# EAGLE library part FE1.1S (library Deegou_IC)
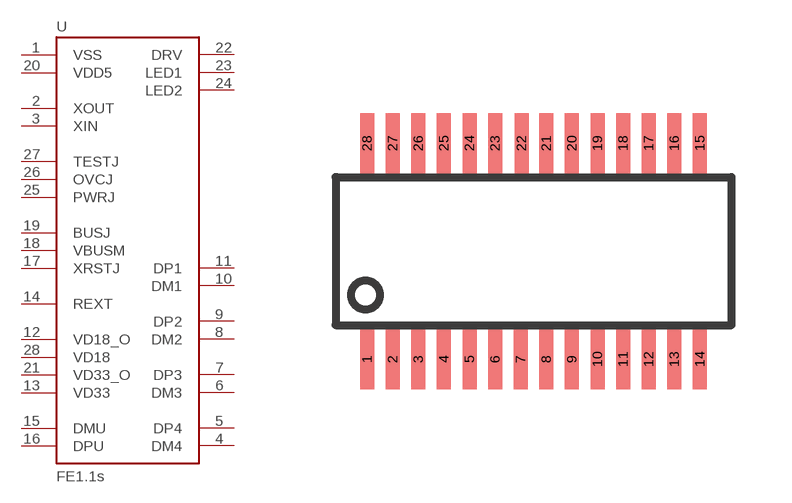
[diagram p85: symbol with the pads of FE1.1S_SSOP-28; footprint FE1.1S_SSOP-28]

Designator prefix U

## FE1.1S  [FE1.1S_SSOP-28]
1  VSS
2  XOUT
3  XIN
4  DM4
5  DP4
6  DM3
7  DP3
8  DM2
9  DP2
10  DM1
11  DP1
12  VD18_O
13  VD33
14  REXT
15  DMU
16  DPU
17  XRSTJ
18  VBUSM
19  BUSJ
20  VDD5
21  VD33_O
22  DRV
23  LED1
24  LED2
25  PWRJ
26  OVCJ
27  TESTJ
28  VD18

## Footprint FE1.1S_SSOP-28 (pad centres in mm)
smd 0.35 x 1.5: 1 -4.16,-2.7; 2 -3.52,-2.7; 3 -2.88,-2.7; 4 -2.24,-2.7; 5 -1.6,-2.7; 6 -0.96,-2.7; 7 -0.32,-2.7; 8 0.32,-2.7; 9 0.96,-2.7; 10 1.6,-2.7; 11 2.24,-2.7; 12 2.88,-2.7; 13 3.52,-2.7; 14 4.16,-2.7; 15 4.16,2.7; 16 3.52,2.7; 17 2.88,2.7; 18 2.24,2.7; 19 1.6,2.7; 20 0.96,2.7; 21 0.32,2.7; 22 -0.3,2.7; 23 -0.96,2.7; 24 -1.6,2.7; 25 -2.24,2.7; 26 -2.88,2.7; 27 -3.52,2.7; 28 -4.16,2.7